# Altium footprint library SHEET06.PcbLib: 64 footprints (part 4 of 4)
Each footprint in its own frame and in the unit in brackets; x right, y up, seen from the top. Pads: shape width x height; smd on the part's side, far side on the other; paste and mask are expansions set on the pad; w line width, h text height; cw(c..) or ccw(c..) is an arc to the next point about the centre after c.
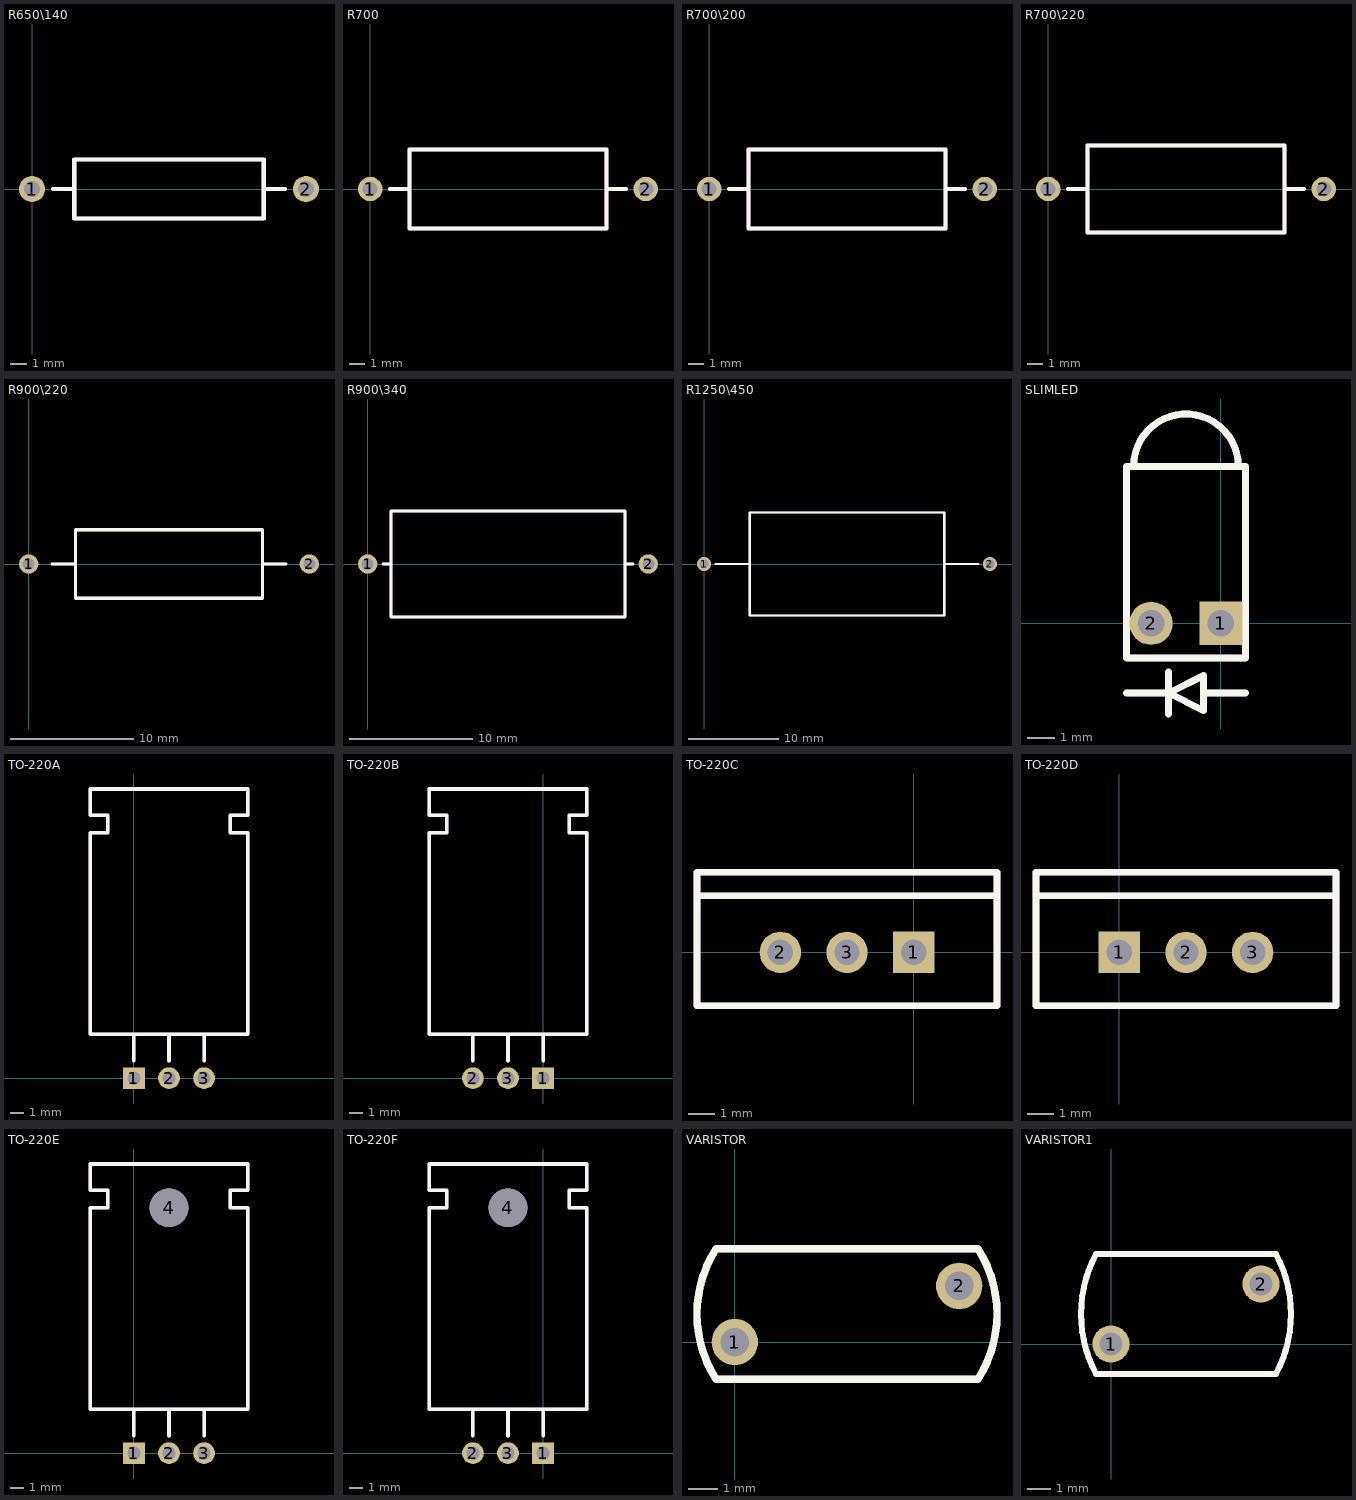
[diagram p3: the footprints below, top view; thin cyan lines are the x and y axes]

## R650\140 [mil]
pads (2):
  round 62 hole 38: 1(0,0) 2(650,0)
Top Overlay:
  lines w10: 50,0 100,0 ; 550,0 600,0 ; 100,-70 550,-70 550,70 100,70 100,-70
  text ".Designator" at 50,75 h60
Mechanical 1:
  lines w10: 50,0 100,0 ; 550,0 600,0 ; 100,-70 550,-70 550,70 100,70 100,-70
  text ".Designator" at 50,75 h60
  text ".Pattern" at 100,-200 h60

## R700 [mil]
pads (2):
  round 62 hole 38: 1(0,0) 2(700,0)
Top Overlay:
  lines w10: 50,0 100,0 ; 600,0 650,0 ; 100,-100 600,-100 600,100 100,100 100,-100
  text ".Designator" at 50,75 h60
Mechanical 1:
  lines w10: 50,0 100,0 ; 600,0 650,0 ; 100,-100 100,100 600,100 600,-100 100,-100
  text ".Pattern" at 225,-225 h60
  text ".Designator" at 50,75 h60

## R700\200 [mil]
pads (2):
  round 62 hole 38: 1(0,0) 2(700,0)
Top Overlay:
  lines w10: 50,0 100,0 ; 600,0 650,0 ; 100,-100 100,100 600,100 600,-100 100,-100
  text ".Designator" at 75,75 h60
Mechanical 1:
  lines w10: 50,0 100,0 ; 600,0 650,0 ; 100,-100 100,100 600,100 600,-100 100,-100
  text ".Pattern" at 100,-200 h60
  text ".Designator" at 75,75 h60

## R700\220 [mil]
pads (2):
  round 62 hole 38: 1(0,0) 2(700,0)
Top Overlay:
  lines w10: 50,0 100,0 ; 600,0 650,0 ; 100,-110 100,110 600,110 600,-110 100,-110
  text ".Designator" at 100,75 h60
Mechanical 1:
  lines w10: 50,0 100,0 ; 600,0 650,0 ; 100,-110 100,110 600,110 600,-110 100,-110
  text ".Pattern" at 150,-250 h60
  text ".Designator" at 100,75 h60

## R900\220 [mil]
pads (2):
  round 62 hole 38: 1(0,0) 2(900,0)
Top Overlay:
  lines w10: 75,0 150,0 ; 750,0 825,0 ; 150,-110 150,110 750,110 750,-110 150,-110
  text ".Designator" at 125,100 h60
Mechanical 1:
  lines w10: 75,0 150,0 ; 750,0 825,0 ; 150,-110 150,110 750,110 750,-110 150,-110
  text ".Designator" at 175,-50 h60
  text ".Pattern" at 175,-250 h60

## R900\340 [mil]
pads (2):
  round 62 hole 38: 1(0,0) 2(900,0)
Top Overlay:
  lines w10: 50,0 75,0 ; 825,0 850,0 ; 75,-170 75,170 825,170 825,-170 75,-170
  text ".Designator" at -375,100 h60
Mechanical 1:
  lines w10: 50,0 75,0 ; 825,0 850,0 ; 75,-170 75,170 825,170 825,-170 75,-170
  text ".Designator" at -375,100 h60
  text ".Pattern" at 275,-275 h60

## R1250\450 [mil]
pads (2):
  round 62 hole 38: 1(0,0) 2(1250,0)
Top Overlay:
  lines w10: 50,0 200,0 ; 1050,0 1200,0 ; 200,-225 1050,-225 1050,225 200,225 200,-225
  text ".Designator" at -375,100 h60
Mechanical 1:
  lines w10: 50,0 200,0 ; 1050,0 1200,0 ; 200,-225 1050,-225 1050,225 200,225 200,-225
  text ".Designator" at -325,-50 h60
  text ".Pattern" at 375,-350 h60

## SLIMLED [mil]
pads (2):
  rect 62x62 / inner round 62 / far side round 62 hole 38: 1(0,0)
  round 62 hole 38: 2(-100,0)
Top Overlay:
  lines w10: -135,-100 -75,-100 ; -125,225 cw(c-50,225) 25,225 ; -75,-130 -75,-70 ; -25,-100 35,-100 ; -75,-100 -25,-125 -25,-75 -75,-100 ; -135,-50 -135,225 35,225 35,-50 -135,-50
  text ".Designator" at 250,200 h60
Mechanical 1:
  lines w10: -135,-100 -75,-100 ; -125,225 cw(c-50,225) 25,225 ; -75,-130 -75,-70 ; -25,-100 35,-100 ; -75,-100 -25,-125 ; -75,-100 -25,-75 ; -75,-100 -25,-125 ; -75,-100 -25,-75 ; -75,-100 -25,-125 ; -75,-100 -25,-75 ; -25,-125 -25,-75 ; -25,-125 -25,-75 ; -25,-125 -25,-75 ; -135,-50 -135,225 35,225 35,-50 -135,-50
  text ".Designator" at 250,-50 h60
  text ".Pattern" at -225,-225 h60

## TO-220A [mil]
pads (3):
  rect 62x62 / inner round 62 / far side round 62 hole 38: 1(0,0)
  round 62 hole 38: 2(100,0) 3(200,0)
Top Overlay:
  lines w10: 0,50 0,125 ; 100,50 100,125 ; 200,50 200,125 ; -125,125 -125,700 -75,700 -75,750 -125,750 -125,825 325,825 325,750 275,750 275,700 325,700 325,125 -125,125
  text ".Designator" at -25,850 h60
Mechanical 1:
  lines w10: 0,50 0,125 ; 100,50 100,125 ; 200,50 200,125 ; -125,125 -125,700 -75,700 -75,750 -125,750 -125,825 325,825 325,750 275,750 275,700 325,700 325,125 -125,125
  text ".Pattern" at -100,-275 h60
  text ".Designator" at -25,350 h60

## TO-220B [mil]
pads (3):
  rect 62x62 / inner round 62 / far side round 62 hole 38: 1(0,0)
  round 62 hole 38: 2(-200,0) 3(-100,0)
Top Overlay:
  lines w10: -200,50 -200,125 ; -100,50 -100,125 ; 0,50 0,125 ; -325,125 125,125 125,700 75,700 75,750 125,750 125,825 -325,825 -325,750 -275,750 -275,700 -325,700 -325,125
  text ".Designator" at -250,150 h60
Mechanical 1:
  lines w10: -200,50 -200,125 ; -100,50 -100,125 ; 0,50 0,125 ; -325,125 125,125 125,700 75,700 75,750 125,750 125,825 -325,825 -325,750 -275,750 -275,700 -325,700 -325,125
  text ".Designator" at -250,150 h60
  text ".Pattern" at -325,-275 h60

## TO-220C [mil]
pads (3):
  rect 62x62 / inner round 62 / far side round 62 hole 38: 1(0,0)
  round 62 hole 38: 2(-200,0) 3(-100,0)
Top Overlay:
  lines w10: -325,85 125,85 ; -325,-80 -325,120 125,120 125,-80 -325,-80
  text ".Designator" at 500,250 h60
Mechanical 1:
  lines w10: -325,85 125,85 ; -325,-80 -325,120 125,120 125,-80 -325,-80
  text ".Designator" at 425,-50 h60
  text ".Pattern" at -300,-200 h60

## TO-220D [mil]
pads (3):
  rect 62x62 / inner round 62 / far side round 62 hole 38: 1(0,0)
  round 62 hole 38: 2(100,0) 3(200,0)
Top Overlay:
  lines w10: -125,85 325,85 ; -125,-80 325,-80 325,120 -125,120 -125,-80
  text ".Designator" at -225,325 h60
Mechanical 1:
  lines w10: -125,85 325,85 ; -125,-80 -125,120 325,120 325,-80 -125,-80
  text ".Designator" at -225,325 h60
  text ".Pattern" at -100,-200 h60

## TO-220E [mil]
pads (4):
  rect 62x62 / inner round 62 / far side round 62 hole 38: 1(0,0)
  round 62 hole 38: 2(100,0) 3(200,0)
  round 110 / inner round 100 / far side round 100 hole 110: 4(100,700)
Top Overlay:
  lines w10: 0,50 0,125 ; 100,50 100,125 ; 200,50 200,125 ; -125,125 325,125 325,700 275,700 275,750 325,750 325,825 -125,825 -125,750 -75,750 -75,700 -125,700 -125,125
  text ".Designator" at -250,850 h60
Mechanical 1:
  lines w10: 0,50 0,125 ; 100,50 100,125 ; 200,50 200,125 ; -125,125 -125,700 -75,700 -75,750 -125,750 -125,825 325,825 325,750 275,750 275,700 325,700 325,125 -125,125
  text ".Designator" at -250,375 h60
  text ".Pattern" at -75,-275 h60

## TO-220F [mil]
pads (4):
  rect 62x62 / inner round 62 / far side round 62 hole 38: 1(0,0)
  round 62 hole 38: 2(-200,0) 3(-100,0)
  round 110 / inner round 100 / far side round 100 hole 110: 4(-100,700)
Top Overlay:
  lines w10: -200,50 -200,125 ; -100,50 -100,125 ; 0,50 0,125 ; -325,125 125,125 125,700 75,700 75,750 125,750 125,825 -325,825 -325,750 -275,750 -275,700 -325,700 -325,125
  text ".Designator" at -25,150 h60
Mechanical 1:
  lines w10: -200,50 -200,125 ; -100,50 -100,125 ; 0,50 0,125 ; -325,125 -325,700 -275,700 -275,750 -325,750 -325,825 125,825 125,750 75,750 75,700 125,700 125,125 -325,125
  text ".Designator" at -25,150 h60
  text ".Pattern" at -300,-275 h60

## VARISTOR [mil]
pads (2):
  round 62 hole 38: 1(0,0) 2(300,75)
Top Overlay:
  lines w10: -25,-50 cw(c112.5,37.5) -25,125 325,125 cw(c187.5,37.5) 325,-50 -25,-50
  text ".Designator" at 50,75 h60
Mechanical 1:
  lines w10: -25,-50 cw(c112.5,37.5) -25,125 325,125 cw(c187.5,37.5) 325,-50 -25,-50
  text ".Designator" at 50,75 h60
  text ".Pattern" at 0,-200 h60

## VARISTOR1 [mil]
pads (2):
  round 62 hole 38: 1(0,0) 2(250,100)
Top Overlay:
  lines w10: -25,-50 cw(c162.5,50) -25,150 275,150 cw(c87.5,50) 275,-50 -25,-50
  text ".Designator" at 75,75 h60
Mechanical 1:
  lines w10: -25,-50 cw(c162.5,50) -25,150 275,150 cw(c87.5,50) 275,-50 -25,-50
  text ".Designator" at 75,75 h60
  text ".Pattern" at 0,-200 h60